# Altium schematic symbol library MMBT3904.SchLib: 1 symbol
Pins are listed as number, name and electrical type; pins without a type are passive.

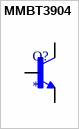
[diagram p0: symbol MMBT3904]

## MMBT3904
designator Q?
BJT, SOT-23, 40V, 200mA, NPN, 0.35W, 150Â°C; MF: Diotec Semiconductor; MP: MMBT3904; SnapEDA_Link: https://www.snapeda.com/parts/MMBT3904/Diotec/view-part/?ref=snap; Package: SOT-23 Diotec; Value: *; Check_prices: https://www.snapeda.com/parts/MMBT3904/Diotec/view-part/?ref=eda
footprint TRANS_MMBT3904
pins: 1 B, 2 E, 3 C